# Altium footprint library mylib.PcbLib: 5 footprints
Each footprint in its own frame and in the unit in brackets; x right, y up, seen from the top. Pads: shape width x height; smd on the part's side, far side on the other; paste and mask are expansions set on the pad; w line width, h text height; cw(c..) or ccw(c..) is an arc to the next point about the centre after c.
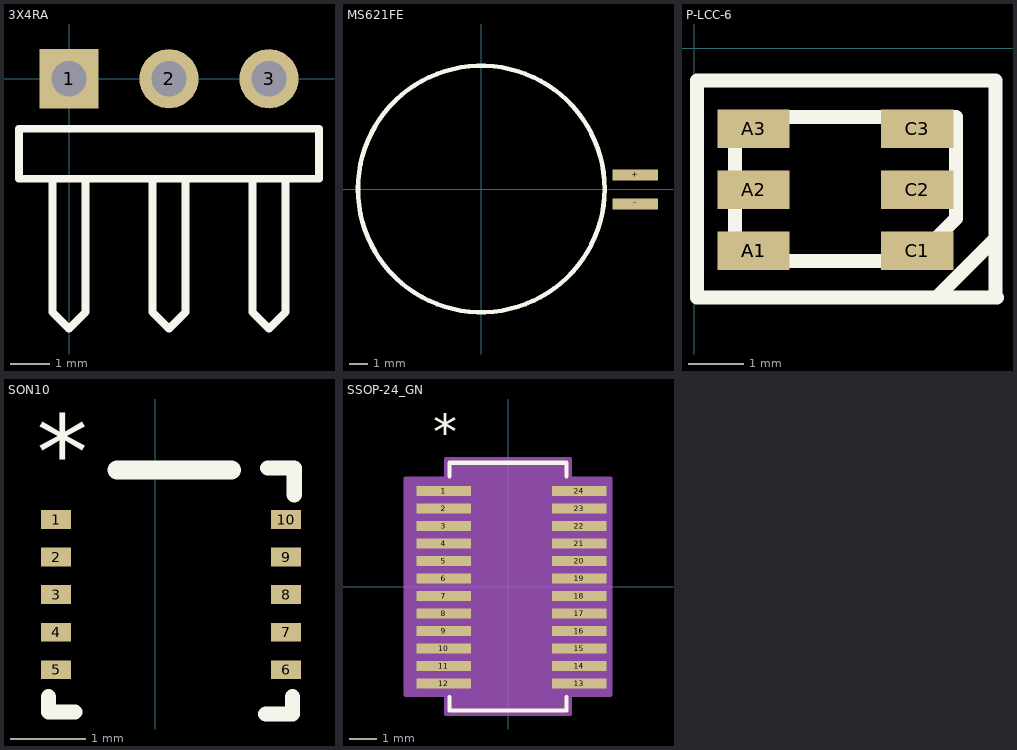
[diagram p0: the footprints below, top view; thin cyan lines are the x and y axes]

## 3X4RA [mm]
pads (3):
  rect 1.5x1.5 hole 0.9: 1(0,0)
  round 1.5 hole 0.9: 2(2.54,0) 3(5.08,0)
Top Overlay:
  lines w0.2: -0.423,-2.54 -0.423,-5.927 0,-6.35 0.423,-5.927 0.423,-2.54 ; 2.117,-2.54 2.117,-5.927 2.54,-6.35 2.963,-5.927 2.963,-2.54 ; 4.657,-2.54 4.657,-5.927 5.08,-6.35 5.503,-5.927 5.503,-2.54 ; -1.27,-2.54 -1.27,-1.27 6.35,-1.27 6.35,-2.54 -1.27,-2.54

## MS621FE [mm]
pads (2):
  rect 2.5x0.6 smd: +(8.509,0.775) -(8.509,-0.825)
Top Overlay:
  circle w0.254: c0.013,0 r6.8

## P-LCC-6 [mm]
pads (7):
  rect 1.3x0.7 smd: A1(1.073,-3.652) A1(1.073,-3.652) A2(1.073,-2.552) A3(1.073,-1.452) C1(4.023,-3.652) C2(4.023,-2.552) C3(4.023,-1.452)
Top Overlay:
  lines w0.25: 0.051,-4.496 4.369,-4.496 5.436,-3.429 ; 0.051,-4.496 0.051,-0.584 5.436,-0.584 5.436,-3.429 ; 0.051,-4.496 5.461,-4.496 5.436,-4.47 5.436,-3.429 ; 0.737,-3.835 0.737,-1.245 4.724,-1.245 4.724,-3.073 3.962,-3.835 0.737,-3.835
3D body: height 1.45, standoff 0, extent 1.27,-4.064 3.734,-1.014
3D body: height 1.5, standoff 0, extent 1.448,-3.836 3.581,-1.244
3D body: height 1.2, standoff 0, extent 1.244,-4.083 3.759,-0.988

## SON10 [mm]
pads (10):
  rect 0.4x0.25 smd: 1(-1.321,-1.676) 2(-1.321,-2.176) 3(-1.321,-2.676) 4(-1.321,-3.176) 5(-1.321,-3.676) 6(1.743,-3.676) 7(1.743,-3.176) 8(1.743,-2.676) 9(1.743,-2.176) 10(1.743,-1.676)
Top Overlay:
  lines w0.203: -1.422,-4.039 -1.422,-4.242 -1.067,-4.242 ; 1.473,-4.267 1.829,-4.267 1.829,-4.039 ; 1.499,-0.991 1.854,-0.991 1.854,-1.346
  lines w0.25: -0.508,-1.016 1.016,-1.016
  text "*" at -1.575,-1.27 h1
3D body: height 1, standoff 0, extent -1.308,-4.055 1.714,-1.245

## SSOP-24_GN [mil]
pads (24):
  rect 78x14 smd: 1(-92,136.5) 2(-92,111.5) 3(-92,86.5) 4(-92,61.5) 5(-92,36.5) 6(-92,11.5) 7(-92,-13.5) 8(-92,-38.5) 9(-92,-63.5) 10(-92,-88.5) 11(-92,-113.5) 12(-92,-138.5) 13(102,-138.5) 14(102,-113.5) 15(102,-88.5) 16(102,-63.5) 17(102,-38.5) 18(102,-13.5) 19(102,11.5) 20(102,36.5) 21(102,61.5) 22(102,86.5) 23(102,111.5) 24(102,136.5)
Top Overlay:
  lines w6: -83.5,-157.6 -83.5,-177 83.5,-177 83.5,-157.6 ; -83.5,157.6 -83.5,177 83.5,177 83.5,157.6
  text "*" at -107,196.5 h50
Mechanical 13:
  lines w0: -12,172 ccw(c0,172) 12,172
  text "*" at -110,200 h50
  text "RefDes2" at -25,210 h50
Mechanical 15:
  region: -88.5,-154.5 -146,-154.5 -146,154.5 -88.5,154.5 -88.5,182 88.5,182 88.5,154.5 146,154.5 146,-154.5 88.5,-154.5 88.5,-182 -88.5,-182
  lines w6: -146,-154.5 -146,154.5 -88.5,154.5 -88.5,182 88.5,182 88.5,154.5 146,154.5 146,-154.5 88.5,-154.5 88.5,-182 -88.5,-182 -88.5,-154.5 -146,-154.5
3D body: height 67.1, standoff 0, extent -125,-174 119,170